# Altium footprint library Resistor.PcbLib: 8 footprints
Each footprint in its own frame and in the unit in brackets; x right, y up, seen from the top. Pads: shape width x height; smd on the part's side, far side on the other; paste and mask are expansions set on the pad; w line width, h text height; cw(c..) or ccw(c..) is an arc to the next point about the centre after c.
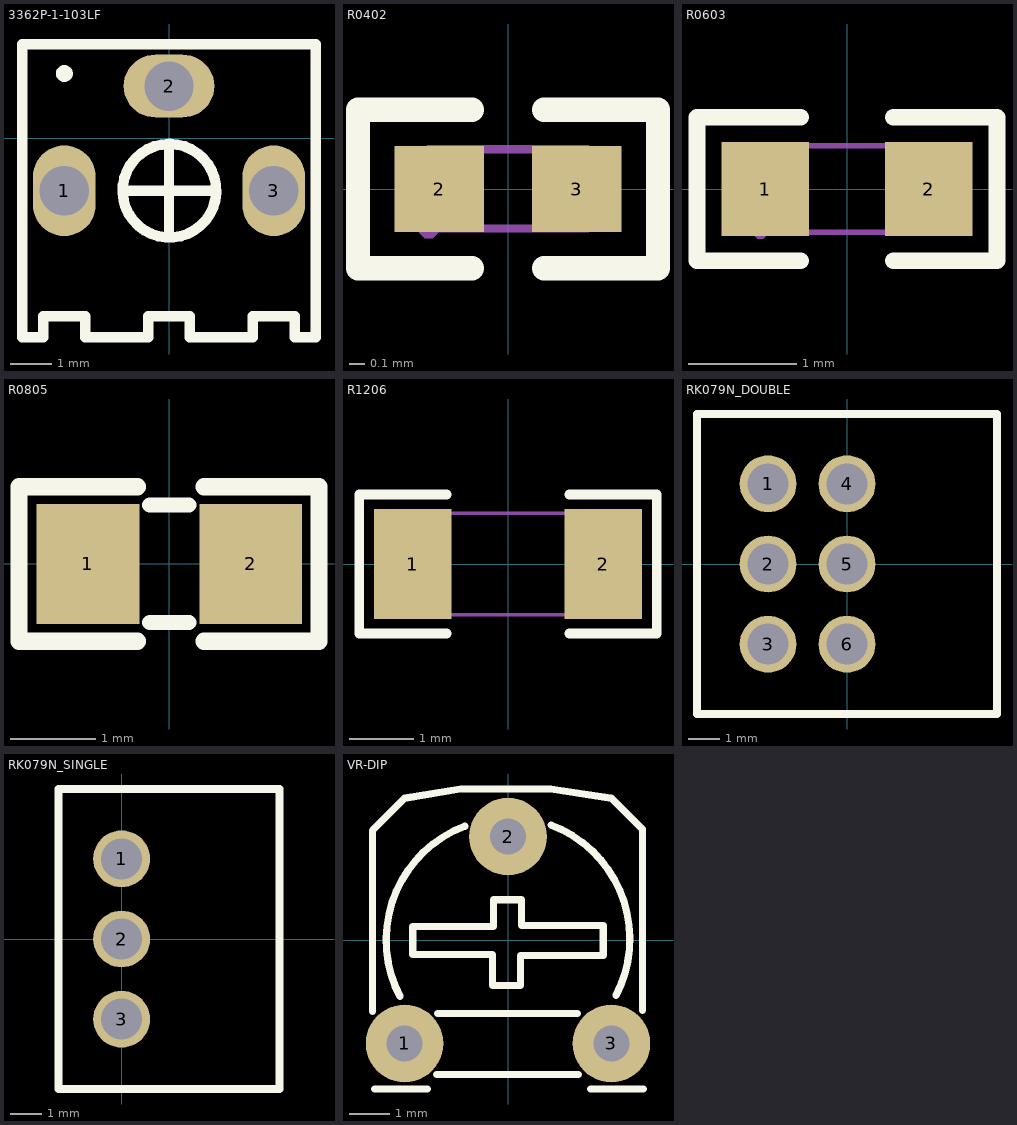
[diagram p0: the footprints below, top view; thin cyan lines are the x and y axes]

## 3362P-1-103LF [mm] "±10% ±100ppm/? 500mW 10kO Through Hole-3P,7x6.6mm Trimmer Potentiometers RoHS"
pads (3):
  oval 1.524x2.2 hole 1.2 paste-2539.97 mask+0.051: 1(-2.54,-1.27) 3(2.54,-1.27)
  oval 2.2x1.524 hole 1.2 paste-2539.97 mask+0.051: 2(0,1.27)
Top Overlay:
  lines w0.254: -2.54,1.651 ccw(c-2.539,1.575) -2.537,1.651 ; -1.016,-1.27 1.016,-1.27 ; 0,-2.286 0,-0.254 ; 0,-0.135 ccw(c0.01,-1.27) 0.02,-0.135 ; 3.556,-0.762 3.556,2.286 -3.556,2.286 -3.556,-0.762 -3.556,-4.318 -3.556,-4.826 -3.048,-4.826 -3.048,-4.318 -2.032,-4.318 -2.032,-4.826 -0.508,-4.826 -0.508,-4.318 0.508,-4.318 0.508,-4.826 2.032,-4.826 2.032,-4.318 3.048,-4.318 3.048,-4.826 3.556,-4.826 3.556,-4.318 3.556,-0.254
Mechanical 15:
  lines w0.003: 1.016,-1.143 1.016,-1.143
3D body "User Library-Bourns 3362R.STEP": height 4.7, standoff -5.47, extent -3.3,-4.57 3.3,2.484

## R0402 [mm]
pads (2):
  rect 0.566x0.54 smd paste-100 mask+0.051: 2(-0.433,0) 3(0.433,0)
Top Overlay:
  lines w0.152: -0.226,-0.499 -0.944,-0.499 -0.944,0.499 -0.226,0.499 ; 0.226,-0.499 0.944,-0.499 0.944,0.499 0.226,0.499
Top Paste:
  region: 0.135,-0.23 0.135,0.23 0.175,0.27 0.676,0.27 0.716,0.23 0.716,-0.23 0.676,-0.27 0.175,-0.27
  region: -0.135,-0.23 -0.135,0.23 -0.175,0.27 -0.676,0.27 -0.716,0.23 -0.716,-0.23 -0.676,-0.27 -0.175,-0.27
Mechanical 15:
  region: 0.251,-0.25 0.251,0.25 0.501,0.25 0.501,-0.25
  region: -0.249,0.25 -0.249,-0.25 -0.499,-0.25 -0.499,0.25
  region: -0.44,-0.25 -0.44,-0.275 -0.475,-0.31 -0.525,-0.31 -0.56,-0.275 -0.56,-0.25 -0.56,-0.225 -0.525,-0.19 -0.475,-0.19 -0.44,-0.225
  lines w0.051: -0.5,-0.25 -0.5,0.25 0.5,0.25 0.5,-0.25 -0.5,-0.25
3D body "R0402.step": height 0.35, standoff 0, extent -0.5,-0.25 0.5,0.25

## R0603 [mm]
pads (2):
  rect 0.806x0.864 smd paste-100 mask+0.051: 1(-0.753,0) 2(0.753,0)
Top Overlay:
  lines w0.152: -0.426,-0.661 -1.385,-0.661 -1.385,0.661 -0.426,0.661 ; 0.426,-0.661 1.385,-0.661 1.385,0.661 0.426,0.661
Top Paste:
  region: -1.195,-0.45 -0.395,-0.45 -0.345,-0.4 -0.345,-0.172 -0.715,-0.172 -0.715,0.158 -0.345,0.158 -0.345,0.4 -0.395,0.45 -1.195,0.45 -1.245,0.4 -1.245,-0.4
  region: 1.195,0.45 0.395,0.45 0.345,0.4 0.345,0.172 0.715,0.172 0.715,-0.158 0.345,-0.158 0.345,-0.4 0.395,-0.45 1.195,-0.45 1.245,-0.4 1.245,0.4
Mechanical 15:
  region: 0.8,-0.4 0.8,0.4 0.5,0.4 0.5,-0.4
  region: -0.8,-0.4 -0.8,0.4 -0.5,0.4 -0.5,-0.4
  region: -0.74,-0.4 -0.74,-0.425 -0.775,-0.46 -0.825,-0.46 -0.86,-0.425 -0.86,-0.4 -0.86,-0.375 -0.825,-0.34 -0.775,-0.34 -0.74,-0.375
  lines w0.051: -0.8,-0.4 0.8,-0.4 0.8,0.4 -0.8,0.4 -0.8,-0.4
3D body "R0603.step": height 0.45, standoff 0, extent -0.8,-0.4 0.8,0.4

## R0805 [mm]
pads (2):
  rect 1.2x1.4 smd: 1(-0.95,0) 2(0.95,0)
Top Overlay:
  lines w0.178: -0.229,-0.686 0.228,-0.686 ; -0.229,0.686 0.228,0.686
  lines w0.2: -0.371,-0.904 -1.754,-0.904 -1.754,0.899 -0.371,0.899 ; 0.404,-0.904 1.746,-0.904 1.746,0.899 0.404,0.899
3D body "R0805.step": height 0.4, standoff 0, extent -1,-0.6 1,0.6

## R1206 [mm]
pads (2):
  rect 1.208x1.701 smd paste-100 mask+0.051: 1(-1.479,0) 2(1.479,0)
Top Overlay:
  lines w0.152: -0.951,-1.079 -2.311,-1.079 -2.311,1.079 -0.951,1.079 ; 0.951,-1.079 2.311,-1.079 2.311,1.079 0.951,1.079
Top Paste:
  region: -0.875,-0.75 -0.875,-0.389 -0.975,-0.289 -1.186,-0.289 -1.286,-0.189 -1.286,0.189 -1.186,0.289 -0.975,0.289 -0.875,0.389 -0.875,0.75 -0.975,0.85 -1.983,0.85 -2.083,0.75 -2.083,-0.75 -1.983,-0.85 -0.975,-0.85
  region: 0.875,-0.75 0.875,-0.389 0.975,-0.289 1.186,-0.289 1.286,-0.189 1.286,0.189 1.186,0.289 0.975,0.289 0.875,0.389 0.875,0.75 0.975,0.85 1.983,0.85 2.083,0.75 2.083,-0.75 1.983,-0.85 0.975,-0.85
Mechanical 15:
  region: 1.55,-0.788 1.55,0.788 1.1,0.788 1.1,-0.788
  region: -1.55,-0.788 -1.55,0.788 -1.1,0.788 -1.1,-0.788
  region: -1.49,-0.787 -1.49,-0.812 -1.525,-0.847 -1.575,-0.847 -1.61,-0.812 -1.61,-0.787 -1.61,-0.763 -1.575,-0.727 -1.525,-0.727 -1.49,-0.763
  lines w0.051: -1.55,-0.788 1.55,-0.788 1.55,0.788 -1.55,0.788 -1.55,-0.788
3D body "R1206.step": height 0.5, standoff 0, extent -1.6,-0.8 1.6,0.8

## RK079N_DOUBLE [mm]
pads (6):
  round 1.8 hole 1.3 paste-2539.97 mask+0.051: 1(-2.5,2.54) 2(-2.5,0) 3(-2.5,-2.54) 4(0,2.54) 5(0,0) 6(0,-2.54)
Top Overlay:
  lines w0.254: -4.75,-4.75 4.75,-4.75 4.75,4.75 -4.75,4.75 -4.75,-4.75
3D body "RV097NS.step": height 11.2, standoff -3.3, extent -4.5,-4.75 20,4.75
3D body "Knob_2.stp": height 13.1, standoff -1.1, extent 21.336,-6.858 38.336,7.339

## RK079N_SINGLE [mm]
pads (3):
  round 1.8 hole 1.3 paste-2539.97 mask+0.051: 1(0,2.54) 2(0,0) 3(0,-2.54)
Top Overlay:
  lines w0.254: -2,-4.75 -2,4.75 5,4.75 5,-4.75 -2,-4.75
3D body "RK0971-L-12.5KC_N-5-green.step": height 12.8, standoff -3.5, extent -2,-5.997 17.55,5.997
3D body "Knob_2.stp": height 13.1, standoff -1.1, extent 21.336,-6.858 38.336,7.339

## VR-DIP [mil]
pads (3):
  round 75 hole 35: 1(-100,-100) 2(0,100) 3(100,-100)
Top Overlay:
  lines w7: -131,-69 -131,106 -100,137 -46,146 41.5,146 100,137 130,107 130,-68 ; -129,-144 -78,-144 ; -104.35,-54.66 cw(c0,0) -41.9,110.1 ; -92,13 -92,-14 -15,-14 -15,-44 12,-44 12,-15 92,-15 92,14 13,14 13,39 -14,39 -14,13 -91,13 ; -69,-130 68,-130 ; -68,-71 67,-71 ; 41.9,111.1 cw(c0,1) 104.35,-53.66 ; 80,-144 131,-144
3D body "Bien TroTam Giac.step": height 278.74, standoff -150.39, extent -127.95,-149.68 127.95,127.88